# EAGLE library part CH340E (library LinnesLab-DigitalIC)
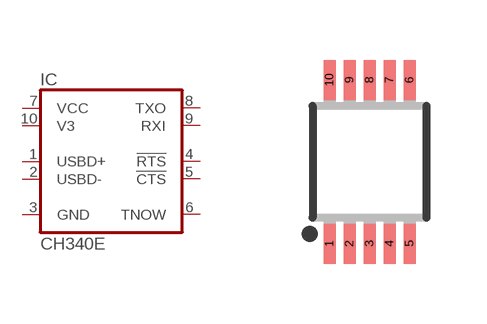
[diagram p20: symbol with the pads of MSOP10; footprint MSOP10]

Designator prefix IC

## CH340E  [MSOP10]
1  USBD+
2  USBD-
3  GND
4  !RTS
5  !CTS
6  TNOW
7  VCC
8  TXO
9  RXI
10  V3

## Footprint MSOP10 (pad centres in mm)
10 Lead Platic MSOP Source: http://www.linear.com .. LT1996
smd 0.3 x 1: 1 -1,-2.05; 2 -0.5,-2.05; 3 0,-2.05; 4 0.5,-2.05; 5 1,-2.05; 6 1,2.05; 7 0.5,2.05; 8 0,2.05; 9 -0.5,2.05; 10 -1,2.05